# Altium footprint library IC.PcbLib: 51 footprints (part 3 of 4)
Each footprint in its own frame and in the unit in brackets; x right, y up, seen from the top. Pads: shape width x height; smd on the part's side, far side on the other; paste and mask are expansions set on the pad; w line width, h text height; cw(c..) or ccw(c..) is an arc to the next point about the centre after c.
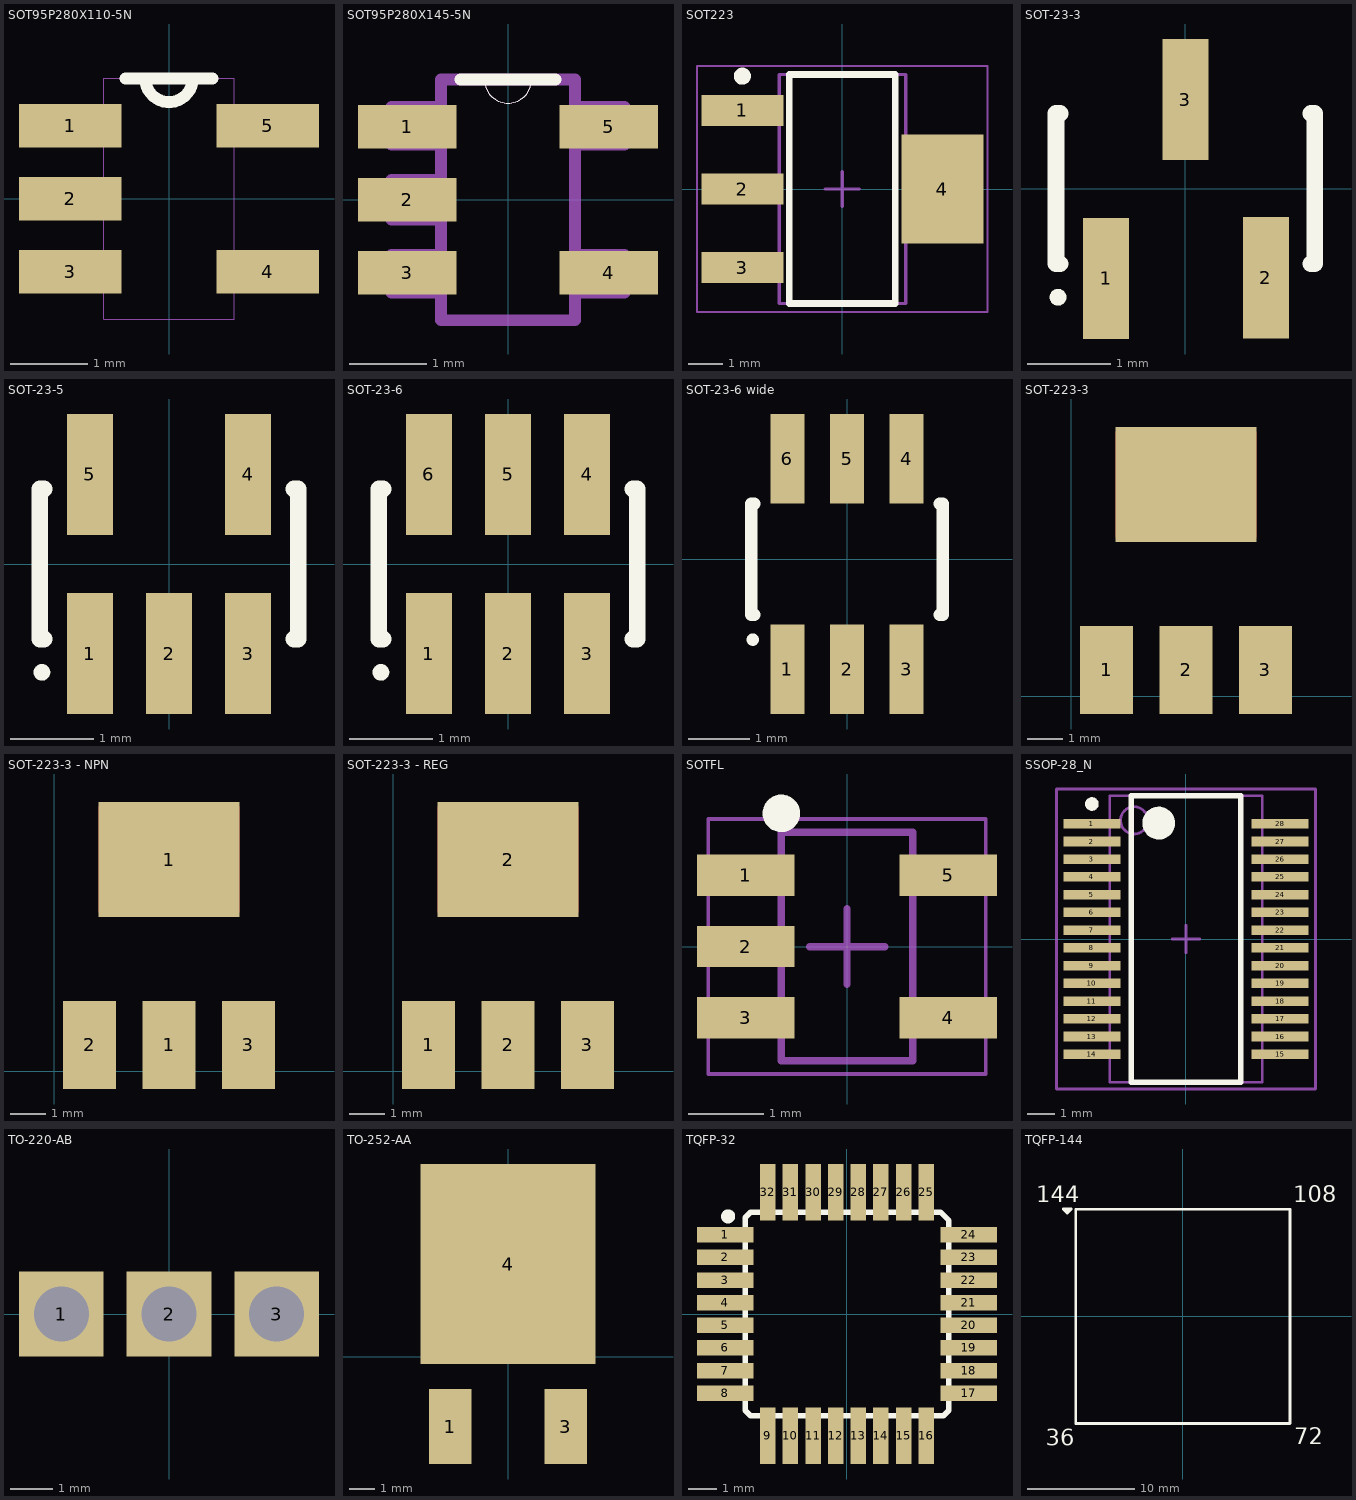
[diagram p2: the footprints below, top view; thin cyan lines are the x and y axes]

## SOT95P280X110-5N [mil]
pads (5):
  rect 52x22 smd: 1(-50,37) 2(-50,0) 3(-50,-37) 4(50,-37) 5(50,37)
Top Overlay:
  lines w6: -22,61 -12,61 ; 22,61 12,61 ; -12,61 ccw(c0,61) 12,61 ; -12,61 12,61
Mechanical 1:
  lines w0: -33,-47 -59,-47 -59,-28 -33,-28 ; -33,-47 -33,-28 ; -33,-47 -33,-61 33,-61 33,-47 ; -33,-28 -33,-10 ; -33,-10 -59,-10 -59,10 -33,10 ; -33,-10 -33,10 ; -33,10 -33,28 ; -33,28 -59,28 -59,47 -33,47 ; -33,28 -33,47 ; -33,47 -33,61 -12,61 ; -12,61 ccw(c0,61) 12,61 ; -12,61 12,61 ; 12,61 33,61 33,47 ; 33,-47 59,-47 59,-28 33,-28 ; 33,-47 33,-28 ; 33,-28 33,28 ; 33,28 59,28 59,47 33,47 ; 33,28 33,47

## SOT95P280X145-5N [mil]
pads (5):
  rect 50x22 smd: 1(-51,37) 2(-51,0) 3(-51,-37) 4(51,-37) 5(51,37)
Top Overlay:
  lines w0: -12,61 ccw(c0,61) 12,61
  lines w6: -24,61 -12,61 12,61 24,61
Mechanical 1:
  lines w0: -12,61 ccw(c0,61) 12,61
  lines w6: -34,-47 -59,-47 -59,-28 -34,-28 ; -34,-47 -34,-28 ; -34,-47 -34,-61 34,-61 34,-47 ; -34,-28 -34,-10 ; -34,-10 -59,-10 -59,10 -34,10 ; -34,-10 -34,10 ; -34,10 -34,28 ; -34,28 -59,28 -59,47 -34,47 ; -34,28 -34,47 ; -34,47 -34,61 -12,61 12,61 34,61 34,47 ; 34,-47 59,-47 59,-28 34,-28 ; 34,-47 34,-28 ; 34,-28 34,28 ; 34,28 59,28 59,47 34,47 ; 34,28 34,47

## SOT223 [mm] "SOT223, 4-Leads, Body 6,50x7,00mm (avg), Pitch 2,30mm, IPC Medium Density"
height 1.7
pads (4):
  rect 2.4x0.9 smd: 1(-2.925,2.3) 2(-2.925,0) 3(-2.925,-2.3)
  rect 2.4x3.2 smd: 4(2.925,0)
Top Overlay:
  circle w0.25: c-2.925,3.3 r0.125
  lines w0.2: -1.55,-3.35 1.55,-3.35 1.55,3.35 -1.55,3.35 -1.55,-3.35
Mechanical 13:
  lines w0.1: -1.85,-3.35 1.85,-3.35 1.85,3.35 -1.85,3.35 -1.85,-3.35
Mechanical 15:
  lines w0.05: -4.25,-3.6 4.25,-3.6 4.25,3.6 -4.25,3.6 -4.25,-3.6
  lines w0.1: -0.5,0 0.5,0 ; 0,-0.5 0,0.5
3D body: height 1.7, standoff 0.02, extent -1.85,-3.35 1.85,3.35

## SOT-23-3 [mm]
height 1.45
pads (3):
  rect 0.55x1.45 smd: 1(-0.95,-1.075) 2(0.965,-1.067) 3(0,1.067)
Top Overlay:
  circle w0.1: c-1.525,-1.3 r0.05
  lines w0.2: -1.5,-0.9 -1.55,-0.9 -1.55,0.9 -1.5,0.9 ; 1.5,-0.9 1.55,-0.9 1.55,0.9 1.5,0.9
3D body "TO-236AB.stp": height 1.1, standoff 0, extent -1.49,-1.319 1.51,1.281

## SOT-23-5 [mm]
height 1.45
pads (5):
  rect 0.55x1.45 smd: 1(-0.95,-1.075) 2(0,-1.075) 3(0.95,-1.075) 4(0.95,1.075) 5(-0.95,1.075)
Top Overlay:
  circle w0.1: c-1.525,-1.3 r0.05
  lines w0.2: -1.5,-0.9 -1.55,-0.9 -1.55,0.9 -1.5,0.9 ; 1.5,-0.9 1.55,-0.9 1.55,0.9 1.5,0.9
3D body "SOT23-5L.stp": height 1.45, standoff 0, extent -1.5,-1.525 1.5,1.475

## SOT-23-6 [mm]
height 1.45
pads (6):
  rect 0.55x1.45 smd: 1(-0.95,-1.075) 2(0,-1.075) 3(0.95,-1.075) 4(0.95,1.075) 5(0,1.075) 6(-0.95,1.075)
Top Overlay:
  circle w0.1: c-1.525,-1.3 r0.05
  lines w0.2: -1.5,-0.9 -1.55,-0.9 -1.55,0.9 -1.5,0.9 ; 1.5,-0.9 1.55,-0.9 1.55,0.9 1.5,0.9
3D body "SOT23-6L.stp": height 1.45, standoff 0, extent -1.499,-1.525 1.5,1.475

## SOT-23-6 wide [mm]
height 1.45
pads (6):
  rect 0.55x1.45 smd: 1(-0.965,-1.778) 2(0,-1.778) 3(0.965,-1.778) 4(0.965,1.626) 5(0,1.626) 6(-0.965,1.626)
Top Overlay:
  circle w0.1: c-1.525,-1.3 r0.05
  lines w0.2: -1.5,-0.9 -1.55,-0.9 -1.55,0.9 -1.5,0.9 ; 1.5,-0.9 1.55,-0.9 1.55,0.9 1.5,0.9
3D body "SOT23-6L.stp": height 1.45, standoff 0, extent -1.499,-1.525 1.5,1.475

## SOT-223-3 [mm]
pads (4):
  rect 1.5x2.5 smd: 1(1,0.75) 2(3.25,0.75) 3(5.5,0.75)
  rect 4x3.25 smd: ""(3.25,6)
Top Layer:
  rectangle: 1.25,4.5 5.25,7.5
3D body "SOT223-3L.stp": height 1.8, standoff 0, extent -0.096,-0.221 6.604,7.079

## SOT-223-3 - NPN [mm]
pads (4):
  rect 1.5x2.5 smd: 1(3.25,0.75) 2(1,0.75) 3(5.5,0.75)
  rect 4x3.25 smd: 1(3.25,6)
Top Layer:
  rectangle: 1.25,4.5 5.25,7.5
3D body "SOT223-3L.stp": height 1.8, standoff 0, extent -0.096,-0.221 6.604,7.079

## SOT-223-3 - REG [mm]
pads (4):
  rect 1.5x2.5 smd: 1(1,0.75) 2(3.25,0.75) 3(5.5,0.75)
  rect 4x3.25 smd: 2(3.25,6)
Top Layer:
  rectangle: 1.25,4.5 5.25,7.5
3D body "SOT223-3L.stp": height 1.8, standoff 0, extent -0.096,-0.221 6.604,7.079

## SOTFL [mm] "SOTFL, 5-Leads, Body 2,90x2,80mm, Pitch 0,95mm, IPC Medium Density"
height 1.45
pads (5):
  rect 1.3x0.55 smd: 1(-1.35,0.95) 2(-1.35,0) 3(-1.35,-0.95) 4(1.35,-0.95) 5(1.35,0.95)
Top Overlay:
  circle w0.25: c-0.875,1.775 r0.125
Mechanical 13:
  lines w0.1: -0.875,-1.525 -0.875,1.525 0.875,1.525 0.875,-1.525 -0.875,-1.525
Mechanical 15:
  lines w0.05: -1.85,-1.7 -1.85,1.7 1.85,1.7 1.85,-1.7 -1.85,-1.7
  lines w0.1: -0.5,0 0.5,0 ; 0,-0.5 0,0.5
3D body: height 1.45, standoff 0, extent -0.875,-1.525 0.875,1.525

## SSOP-28_N [mm] "SOP, 28-Leads, Body 10.2x5.3mm, Pitch 0.65mm, IPC Medium Density"
height 2
pads (28):
  rect 2.1x0.35 smd: 1(-3.45,4.225) 2(-3.45,3.575) 3(-3.45,2.925) 4(-3.45,2.275) 5(-3.45,1.625) 6(-3.45,0.975) 7(-3.45,0.325) 8(-3.45,-0.325) 9(-3.45,-0.975) 10(-3.45,-1.625) 11(-3.45,-2.275) 12(-3.45,-2.925) 13(-3.45,-3.575) 14(-3.45,-4.225) 15(3.45,-4.225) 16(3.45,-3.575) 17(3.45,-2.925) 18(3.45,-2.275) 19(3.45,-1.625) 20(3.45,-0.975) 21(3.45,-0.325) 22(3.45,0.325) 23(3.45,0.975) 24(3.45,1.625) 25(3.45,2.275) 26(3.45,2.925) 27(3.45,3.575) 28(3.45,4.225)
Top Overlay:
  circle w0.6: c-1,4.25 r0.3
  circle w0.25: c-3.45,4.95 r0.125
  lines w0.2: -2,-5.25 2,-5.25 2,5.25 -2,5.25 -2,-5.25
Mechanical 13:
  circle w0.1: c-1.9,4.35 r0.5
  lines w0.1: -2.8,-5.25 2.8,-5.25 2.8,5.25 -2.8,5.25 -2.8,-5.25
Mechanical 15:
  lines w0.1: -0.5,0 0.5,0 ; 0,-0.5 0,0.5 ; -4.75,-5.5 4.75,-5.5 4.75,5.5 -4.75,5.5 -4.75,-5.5
3D body: height 2, standoff 0.05, extent -2.8,-5.25 2.8,5.25

## TO-220-AB [mm]
pads (3):
  rect 2x2 hole 1.3: 1(-2.54,0) 2(0,0) 3(2.54,0)
3D body "TO-220AB-ST.stp": height 21.5, standoff -7.2, extent -5.325,-1.7 5.325,3.1

## TO-252-AA [mm]
pads (3):
  rect 1.7x3 smd: 1(-2.3,-2.8) 3(2.3,-2.8)
  rect 7x8 smd: 4(0,3.7)
3D body "TO-252AA.stp": height 2.4, standoff 0, extent -3.348,-3.7 3.329,6.7

## TQFP-32 [mm] "TQFP, 32 Leads, 7,00x7,00mm Body, 0,80mm Pitch, IPC Medium Density"
height 2.45
pads (32):
  rect 2x0.55 smd mask+0: 1(-4.3,2.8) 2(-4.3,2) 3(-4.3,1.2) 4(-4.3,0.4) 5(-4.3,-0.4) 6(-4.3,-1.2) 7(-4.3,-2) 8(-4.3,-2.8) 17(4.3,-2.8) 18(4.3,-2) 19(4.3,-1.2) 20(4.3,-0.4) 21(4.3,0.4) 22(4.3,1.2) 23(4.3,2) 24(4.3,2.8)
  rect 0.55x2 smd mask+0: 9(-2.8,-4.3) 10(-2,-4.3) 11(-1.2,-4.3) 12(-0.4,-4.3) 13(0.4,-4.3) 14(1.2,-4.3) 15(2,-4.3) 16(2.8,-4.3) 25(2.8,4.3) 26(2,4.3) 27(1.2,4.3) 28(0.4,4.3) 29(-0.4,4.3) 30(-1.2,4.3) 31(-2,4.3) 32(-2.8,4.3)
Top Overlay:
  circle w0.25: c-4.2,3.45 r0.125
  lines w0.2: -3.6,-3.4 -3.6,3.4 -3.4,3.6 3.3,3.6 3.6,3.3 3.6,-3.4 3.4,-3.6 -3.4,-3.6 -3.6,-3.4
3D body "MS-026ABA TQFP-32.stp": height 1.2, standoff 0, extent -4.6,-4.6 4.6,4.6

## TQFP-144 [mm]
height 1.5
Top Overlay:
  lines w0.254: -10.795,10.033 -10.795,9.652 ; -10.795,9.652 -11.176,10.033 -10.414,10.033 -10.795,9.652 ; -10,-10 10,-10 10,10 -10,10 -10,-10
  text "72" at 10.414,-11.938 h1.52
  text "108" at 10.287,10.668 h1.52
  text "36" at -12.827,-12.065 h1.52
  text "144" at -13.716,10.668 h1.52